# EAGLE library part LOLIN-D32 (library OPNpool)
Wemos LOLIN D32, ESP-WROOM-32 Technical specifications: Manufacturer: Wemos SoC: ESP32-WROOM-32, 4 MByte flash, max 240MHz Optional battery: 3.7V Lipo, connector PH-2(2.0mm) UART: CH340, micro-USB connector Mfr.#: LOLIN D32, data sheet <https://wiki.wemos.cc/products:d32:d32> Alibaba: 32808551116, about $6.50
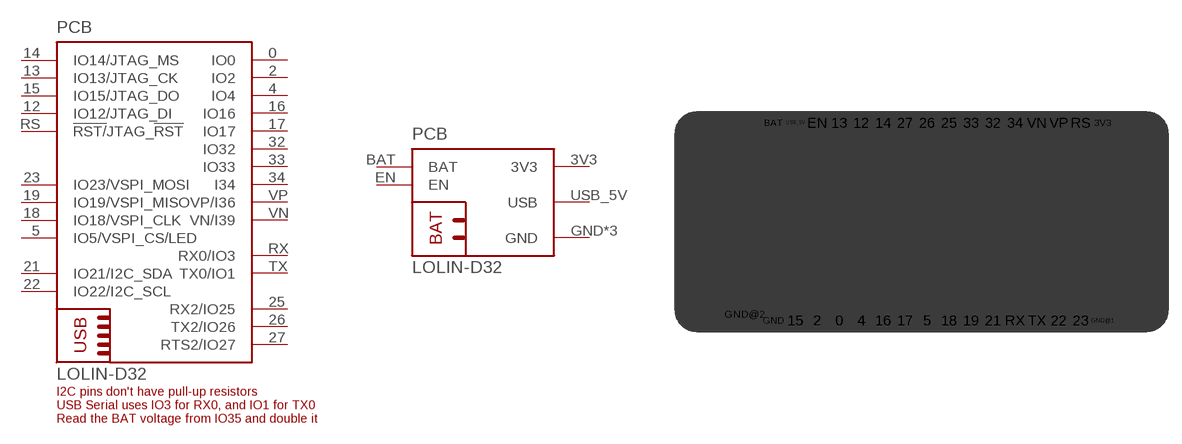
[diagram p14: symbol with the pads of LOLIN-D32; footprint LOLIN-D32]

Designator prefix PCB; gates G$1=LOLIN-D32-IO P=LOLIN-D32-PWR

## LOLIN-D32  [LOLIN-D32]
0  G$1:IO0
2  G$1:IO2
3V3  P:3V3  sup
4  G$1:IO4
5  G$1:IO5/VSPI_CS/LED
12  G$1:IO12/JTAG_DI
13  G$1:IO13/JTAG_CK
14  G$1:IO14/JTAG_MS
15  G$1:IO15/JTAG_DO
16  G$1:IO16
17  G$1:IO17
18  G$1:IO18/VSPI_CLK
19  G$1:IO19/VSPI_MISO
21  G$1:IO21/I2C_SDA
22  G$1:IO22/I2C_SCL
23  G$1:IO23/VSPI_MOSI
25  G$1:RX2/IO25
26  G$1:TX2/IO26
27  G$1:RTS2/IO27
32  G$1:IO32
33  G$1:IO33
34  G$1:I34  in
BAT  P:BAT  pwr
EN  P:EN  pas
GND  P:GND  sup
GND@1  P:GND  sup
GND@2  P:GND  sup
RS  G$1:!RST/!JTAG_!RST  in
RX  G$1:RX0/IO3
TX  G$1:TX0/IO1
USB_5V  P:USB  sup
VN  G$1:VN/I39  in
VP  G$1:VP/I36  in

## Footprint LOLIN-D32 (pad centres in mm)
drill 1.016 pad 1.778: 0 -10.16,-10.16; 2 -12.7,-10.16; 3V3 20.32,12.7; 4 -7.62,-10.16; 5 0,-10.16; 12 -7.62,12.7; 13 -10.16,12.7; 14 -5.08,12.7; 15 -15.24,-10.16; 16 -5.08,-10.16; 17 -2.54,-10.16; 18 2.54,-10.16; 19 5.08,-10.16; 21 7.62,-10.16; 22 15.24,-10.16; 23 17.78,-10.16; 25 2.54,12.7; 26 0,12.7; 27 -2.54,12.7; 32 7.62,12.7; 33 5.08,12.7; 34 10.16,12.7; BAT -17.78,12.7; EN -12.7,12.7; GND -17.78,-10.16; GND@1 20.32,-10.16; RS 17.78,12.7; RX 10.16,-10.16; TX 12.7,-10.16; USB_5V -15.24,12.7; VN 12.7,12.7; VP 15.24,12.7
drill 2.032 pad 3.302: GND@2 -21.082,-9.398
hole 2.54 at 25.908,11.938
hole 2.54 at 25.908,-9.398